# Altium schematic symbol library USB-A.SchLib: 1 symbol
Pins are listed as number, name and electrical type; pins without a type are passive.

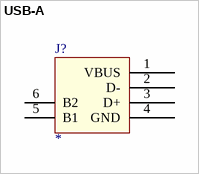
[diagram p0: symbol USB-A]

## USB-A
designator J?
pins: 1 VBUS (power), 2 D-, 3 D+, 4 GND (power), 5 B1, 6 B2